# Altium footprint library MY_LIB.PcbLib: 129 footprints (part 6 of 9)
Each footprint in its own frame and in the unit in brackets; x right, y up, seen from the top. Pads: shape width x height; smd on the part's side, far side on the other; paste and mask are expansions set on the pad; w line width, h text height; cw(c..) or ccw(c..) is an arc to the next point about the centre after c.
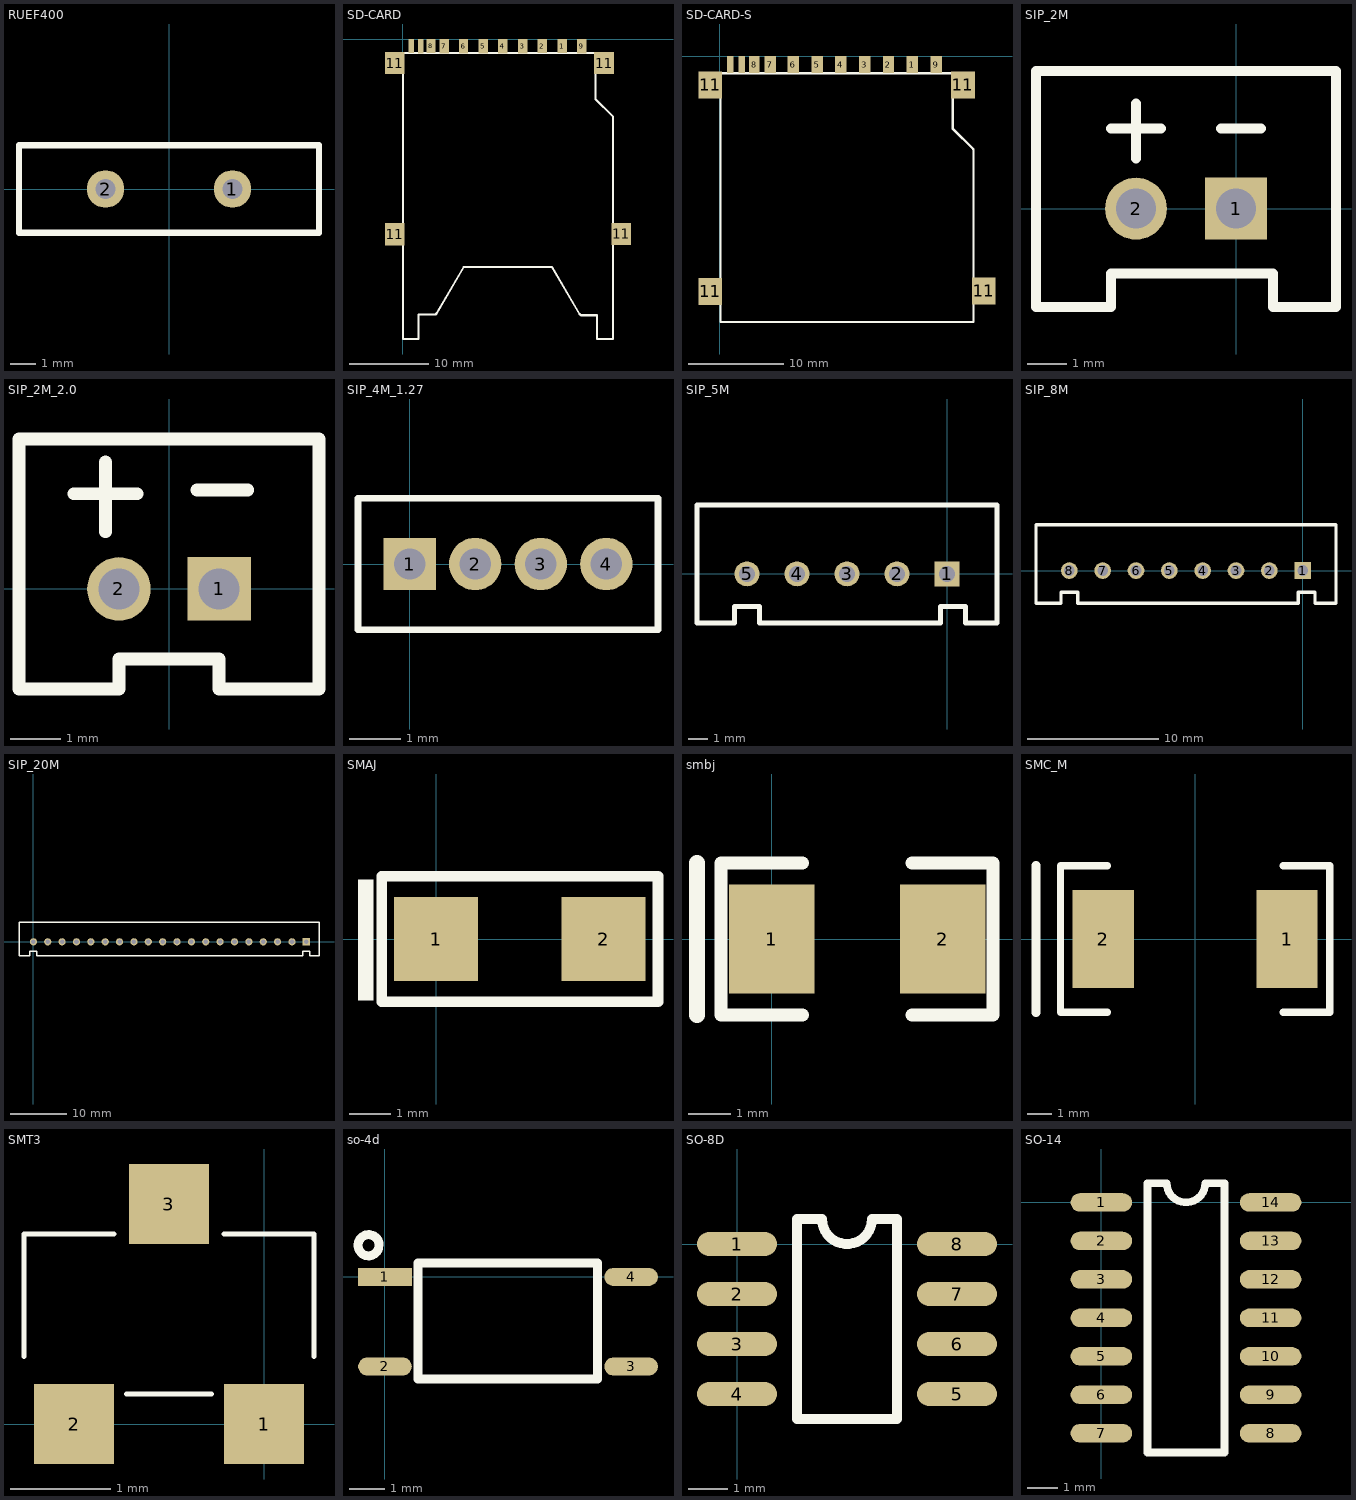
[diagram p5: the footprints below, top view; thin cyan lines are the x and y axes]

## RUEF400 [mm]
pads (2):
  round 1.5 hole 0.8: 1(2.54,0) 2(-2.54,0)
Top Overlay:
  lines w0.254: -6,-1.75 6,-1.75 6,1.75 -6,1.75 -6,-1.75

## SD-CARD [mm]
pads (15):
  rect 1.2x1.8 smd: 1(20.203,-0.897) 2(17.714,-0.897) 3(15.22,-0.906) 4(12.72,-0.906) 5(10.22,-0.906) 6(7.72,-0.906) 7(5.295,-0.906) 9(22.72,-0.906)
  rect 1.1x1.8 smd: 8(3.592,-0.897)
  rect 0.7x1.8 smd: 10(2.295,-0.906) 12(1.103,-0.897)
  rect 2.5x2.8 smd: 11(-1,-24.731) 11(-1,-3.04) 11(25.529,-3.04) 11(27.714,-24.681)
Top Overlay:
  lines w0.254: 2.045,-34.891 2.045,-38.008 0.073,-38.008 0.073,-1.811 0.087,-1.797 24.445,-1.797 24.445,-7.607 26.635,-9.796 26.645,-9.796 26.645,-38.008 ; 2.096,-34.891 4.138,-34.891 4.296,-34.733 ; 4.245,-34.891 7.757,-28.897 ; 7.745,-28.897 18.945,-28.897 22.445,-34.891 ; 22.445,-34.841 22.603,-34.999 24.645,-34.999 24.645,-38.008 26.618,-38.008
Multi-Layer:
  circle w0.254: c1.814,-4.197 r0.58
  circle w0.254: c22.845,-4.157 r0.82

## SD-CARD-S [mm]
pads (15):
  rect 1.2x1.8 smd: 1(20.203,-0.897) 2(17.714,-0.897) 3(15.22,-0.906) 4(12.72,-0.906) 5(10.22,-0.906) 6(7.72,-0.906) 7(5.295,-0.906) 9(22.72,-0.906)
  rect 1.1x1.8 smd: 8(3.592,-0.897)
  rect 0.7x1.8 smd: 10(2.295,-0.906) 12(1.103,-0.897)
  rect 2.5x2.8 smd: 11(-1,-24.731) 11(-1,-3.04) 11(25.529,-3.04) 11(27.714,-24.681)
Top Overlay:
  lines w0.254: 0.073,-27.94 26.645,-27.94 26.645,-9.796 26.635,-9.796 24.445,-7.607 24.445,-1.797 0.087,-1.797 0.073,-1.811 0.073,-27.94
Multi-Layer:
  circle w0.254: c1.814,-4.197 r0.58
  circle w0.254: c22.845,-4.157 r0.82

## SIP_2M [mil]
pads (2):
  rect 62x62 hole 40: 1(0,0)
  round 62 hole 40: 2(-100,0)
Top Overlay:
  lines w10: -125,80 -75,80 ; -100,50 -100,105 ; -15,80 25,80 ; -200,-98.42 -200,137.79 100,137.79 100,-98.42 36.81,-98.42 36.81,-65 -125,-65 -125,-98.42 -200,-98.42

## SIP_2M_2.0 [mm]
pads (2):
  rect 1.27x1.27 hole 0.813: 1(1,0)
  round 1.27 hole 0.813: 2(-1,0)
Top Overlay:
  lines w0.254: -1.905,1.905 -0.635,1.905 ; -1.27,1.143 -1.27,2.54 ; 0.559,1.981 1.575,1.981 ; -3,-2 -1,-2 -1,-1.4 1,-1.4 1,-2 3,-2 3,3 -3,3 -3,-2

## SIP_4M_1.27 [mil]
pads (4):
  rect 40x40 hole 24: 1(0,0)
  round 40 hole 24: 2(50,0) 3(100,0) 4(150,0)
Top Overlay:
  lines w5: -39.37,-50 -39.37,50 189.37,50 189.37,-50 -39.37,-50

## SIP_5M [mil]
pads (5):
  rect 50x50 hole 32: 1(0,0)
  round 50 hole 32: 2(-100,0) 3(-200,0) 4(-300,0) 5(-400,0)
Top Overlay:
  lines w10: -500,-98.42 -425,-98.42 -425,-65 -375,-65 -375,-98.42 -13.19,-98.42 -13.19,-65 36.81,-65 36.81,-98.42 100,-98.42 100,137.79 -500,137.79 -500,-98.42

## SIP_8M [mil]
pads (8):
  rect 50x50 hole 32: 1(0,0)
  round 50 hole 32: 2(-100,0) 3(-200,0) 4(-300,0) 5(-400,0) 6(-500,0) 7(-600,0) 8(-700,0)
Top Overlay:
  lines w10: -800,-98.42 -725,-98.42 -725,-65 -675,-65 -675,-98.42 -13.19,-98.42 -13.19,-65 36.81,-65 36.81,-98.42 100,-98.42 100,137.79 -800,137.79 -800,-98.42

## SIP_20M [mil]
pads (20):
  rect 50x50 hole 32: 1(1900,0)
  round 50 hole 32: 2(1800,0) 3(1700,0) 4(1600,0) 5(1500,0) 6(1400,0) 7(1300,0) 8(1200,0) 9(1100,0) 10(1000,0) 11(900,0) 12(800,0) 13(700,0) 14(600,0) 15(500,0) 16(400,0) 17(300,0) 18(200,0) 19(100,0) 20(0,0)
Top Overlay:
  lines w10: -100,-98.42 -100,137.79 1988.19,137.79 1988.19,-98.42 1925,-98.42 1925,-65 1875,-65 1875,-98.42 25,-98.42 25,-65 -25,-65 -25,-98.42 -100,-98.42

## SMAJ [mm]
pads (2):
  rect 2x2 smd: 1(0,0) 2(4,0)
Top Overlay:
  rectangle: -1.865,-1.474 -1.49,1.421
  lines w0.254: -1.3,-1.5 -1.3,1.5 5.3,1.5 5.3,-1.5 -1.3,-1.5

## smbj [mm]
pads (2):
  rect 2x2.54 smd: 1(0,0) 2(4,0)
Top Overlay:
  lines w0.305: 0.711,-1.778 -1.194,-1.778 -1.194,1.778 0.711,1.778 ; 3.277,-1.778 5.182,-1.778 5.182,1.778 3.277,1.778
  lines w0.381: -1.753,-1.778 -1.753,1.778

## SMC_M [mm]
pads (2):
  rect 2.5x4 smd: 1(3.75,0) 2(-3.75,0)
Top Overlay:
  lines w0.305: -3.595,-3 -5.5,-3 -5.5,3 -3.595,3 ; 3.595,-3 5.5,-3 5.5,3 3.595,3
  lines w0.381: -6.5,-3 -6.5,3

## SMT3 [mm]
pads (3):
  rect 0.8x0.8 smd: 1(0,0) 2(-1.9,0) 3(-0.95,2.2)
Top Overlay:
  lines w0.051: -2.4,0.675 -2.4,1.9 -1.5,1.9 ; -1.375,0.3 -0.525,0.3 ; -0.4,1.9 0.5,1.9 0.5,0.675

## so-4d [mil]
pads (4):
  rect 60x20 smd: 1(0,0)
  oval 60x20 smd: 2(0,-100) 3(275,-100) 4(275,0)
Top Overlay:
  lines w10: -7.1,31.7 cw(c-18.31,35.43) -6.5,35.43 ; 36.81,-114.17 36.81,15.75 237.6,15.75 237.6,-114.17 36.81,-114.17

## SO-8D [mil]
pads (8):
  oval 80x24 smd: 1(0,0) 2(0,-50) 3(0,-100) 4(0,-150) 5(220,-150) 6(220,-100) 7(220,-50) 8(220,0)
Top Overlay:
  lines w10: 60,-175 160,-175 160,25 135,25 cw(c110,25) 85,25 60,25 60,-175

## SO-14 [mil]
pads (14):
  oval 80x24 smd: 1(0,0) 2(0,-50) 3(0,-100) 4(0,-150) 5(0,-200) 6(0,-250) 7(0,-300) 8(220,-300) 9(220,-250) 10(220,-200) 11(220,-150) 12(220,-100) 13(220,-50) 14(220,0)
Top Overlay:
  lines w10: 60,-325 60,25 85,25 ccw(c110,25) 135,25 160,25 160,-325 60,-325